# Altium footprint library SOT95P280X110-6N.PcbLib: 1 footprints
Each footprint in its own frame and in the unit in brackets; x right, y up, seen from the top. Pads: shape width x height; smd on the part's side, far side on the other; paste and mask are expansions set on the pad; w line width, h text height; cw(c..) or ccw(c..) is an arc to the next point about the centre after c.
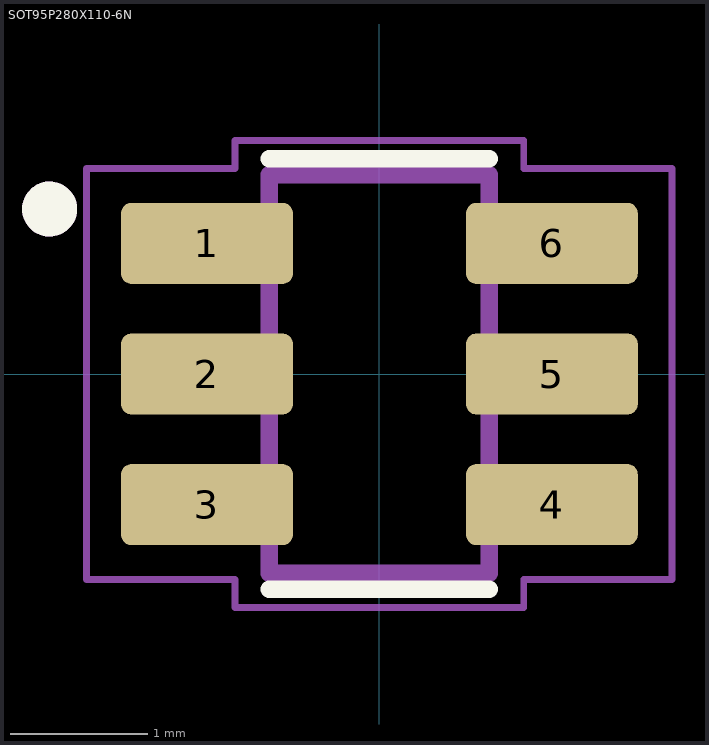
[diagram p0: the footprint, top view; thin cyan lines are the x and y axes]

## SOT95P280X110-6N [mm]
pads (6):
  rrect25% 1.25x0.59 smd: 1(-1.255,0.95) 2(-1.255,0) 3(-1.255,-0.95) 4(1.255,-0.95) 5(1.255,0) 6(1.255,0.95)
Top Overlay:
  circle w0.2: c-2.4,1.2 r0.1
  lines w0.127: -0.8,-1.565 0.8,-1.565 ; -0.8,1.565 0.8,1.565
Mechanical 13:
  circle w0.2: c-2.4,1.2 r0.1
  lines w0.127: -0.8,-1.45 -0.8,1.45 0.8,1.45 0.8,-1.45 -0.8,-1.45
Mechanical 15:
  lines w0.05: -2.13,-1.495 -2.13,1.495 -1.05,1.495 -1.05,1.7 1.05,1.7 1.05,1.495 2.13,1.495 2.13,-1.495 1.05,-1.495 1.05,-1.7 -1.05,-1.7 -1.05,-1.495 -2.13,-1.495
3D body "User Library-TSOT-23-6(S6).step": height 1, standoff 0, extent -1.412,-1.45 1.412,1.45